# Altium integrated library AZ1117IH-3.3TRG1.IntLib: 1 symbol
Pins are listed as number, name and electrical type; pins without a type are passive.

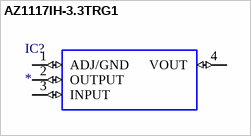
[diagram p0: symbol AZ1117IH-3.3TRG1]

## AZ1117IH-3.3TRG1
designator IC?
Linear Voltage Regulator IC Positive Fixed 1 Output 1A SOT-223; MF: Diodes Inc.; MP: AZ1117IH-3.3TRG1; Price: None; Purchase-URL: https://pricing.snapeda.com/search/part/AZ1117IH-3.3TRG1/?ref=eda; Check_prices: https://www.snapeda.com/parts/AZ1117IH-3.3TRG1/Diodes%20Inc./view-part/490259/?ref=eda; Value: *; Availability: Warning; SnapEDA_Link: https://www.snapeda.com/parts/AZ1117IH-3.3TRG1/Diodes%20Inc./view-part/490259/?ref=snap; Package: SOT-223 Diodes Inc.
footprint SOT230P700X170-4N
pins: 1 ADJ/GND (io), 2 OUTPUT (io), 3 INPUT (io), 4 VOUT (io)